# Altium schematic symbol library 1-284391-2.SchLib: 1 symbol
Pins are listed as number, name and electrical type; pins without a type are passive.

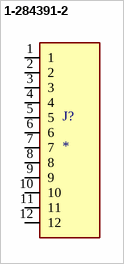
[diagram p0: symbol 1-284391-2]

## 1-284391-2
designator J?
Conn Eurostyle Block F 12 POS 3.5mm Solder ST Thru-Hole 12A/Contact Box; MP: 1-284391-2; MF: {'manufacturer': u'TE Connectivity'}; Value: *; Availability: Unavailable; Package: None; Price: None
footprint TE_1-284391-2
pins: 1, 2, 3, 4, 5, 6, 7, 8, 9, 10, 11, 12